# Altium schematic symbol library Резисторы.SchLib: 8 symbols
Pins are listed as number, name and electrical type; pins without a type are passive.

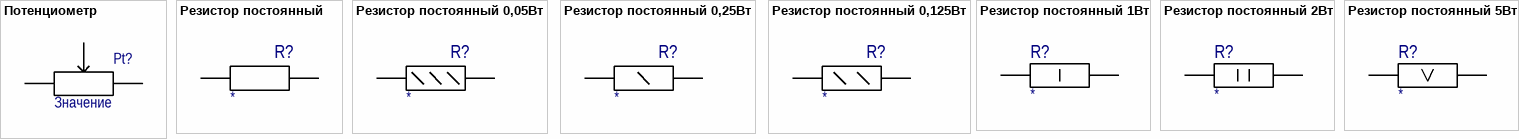
[diagram p0: symbols Потенциометр to Резистор постоянный 5Вт]

## Потенциометр
designator Pt?  value Значение  (hidden comment: Потенциометр)
ComponentLink1Description: New link; ComponentLink1URL: *; Part: *; Alternative part: *
pins: 1, 2, 3

## Резистор постоянный
designator R?
Резистор постоянный; Value: *; Part: *; Alternative part: *; ComponentLink1Description: New link; ComponentLink1URL: *
pins: 1, 2

## Резистор постоянный 0,05Вт
designator R?
Резистор постоянный 0,05Вт; Part: *; Alternative part: *; Value: *; ComponentLink1Description: New link; ComponentLink1URL: *
pins: 1, 2

## Резистор постоянный 0,25Вт
designator R?
Резистор постоянный 0,25Вт; Part: *; Alternative part: *; Value: *; ComponentLink1Description: New link; ComponentLink1URL: *
pins: 1, 2

## Резистор постоянный 0,125Вт
designator R?
Резистор постоянный 0,125Вт; Part: *; Alternative part: *; Value: *; ComponentLink1Description: Link; ComponentLink1URL: *; ComponentLink2Description: Alternative link; ComponentLink2URL: *
pins: 1, 2

## Резистор постоянный 1Вт
designator R?
Резистор постоянный 1Вт; Part: *; Alternative part: *; Value: *; ComponentLink1Description: Link; ComponentLink1URL: *; ComponentLink2Description: Alternative link; ComponentLink2URL: *
pins: 1, 2

## Резистор постоянный 2Вт
designator R?
Резистор постоянный 2Вт; Part: *; Alternative part: *; Value: *; ComponentLink1Description: Link; ComponentLink1URL: *; ComponentLink2Description: Alternative link; ComponentLink2URL: *
pins: 1, 2

## Резистор постоянный 5Вт
designator R?
Резистор постоянный 5Вт; Part: *; Alternative part: *; Value: *; ComponentLink1Description: Link; ComponentLink1URL: *; ComponentLink2Description: Alternative link; ComponentLink2URL: *
pins: 1, 2